# EAGLE library part P094S (library pot-tt_electronics)
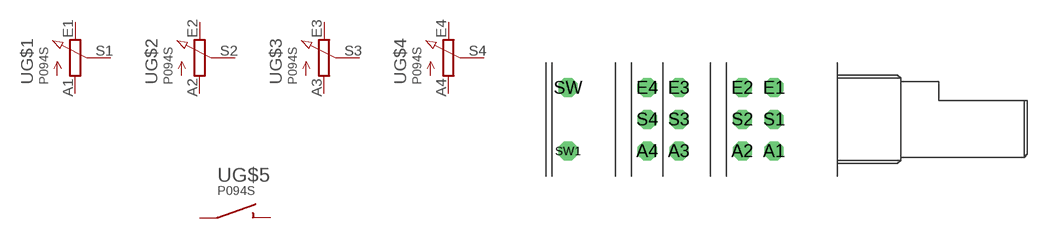
[diagram p5: symbol with the pads of P094S; footprint P094S]

Designator prefix -; gates G$1=POT_EU- G$2=POT_EU- G$3=POT_EU- G$4=POT_EU- G$5=SW

## P094S  [P094S]
A1  G$1:A  pas
A2  G$2:A  pas
A3  G$3:A  pas
A4  G$4:A  pas
E1  G$1:E  pas
E2  G$2:E  pas
E3  G$3:E  pas
E4  G$4:E  pas
S1  G$1:S  pas
S2  G$2:S  pas
S3  G$3:S  pas
S4  G$4:S  pas
SW  G$5:SW  pas
SW1  G$5:SW1  pas

## Footprint P094S (pad centres in mm)
drill 1 octagon: A1 -5,-2.5; A2 -7.5,-2.5; A3 -12.5,-2.5; A4 -15,-2.5; E1 -5,2.5; E2 -7.5,2.5; E3 -12.5,2.5; E4 -15,2.5; S1 -5,0; S2 -7.5,0; S3 -12.5,0; S4 -15,0; SW -21.25,2.5; SW1 -21.25,-2.5